# EAGLE library part M24M01 (library EEG)
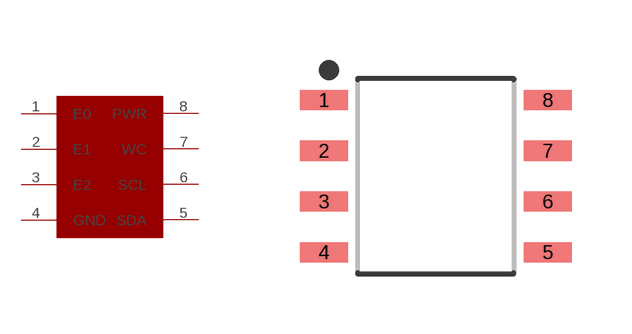
[diagram p3: symbol with the pads of M24M01; footprint M24M01]

Designator prefix -

## M24M01  [M24M01]
1  E0
2  E1
3  E2
4  GND
5  SDA
6  SCL
7  WC
8  PWR

## Footprint M24M01 (pad centres in mm)
8-SOIC, 1.27 mm pitch, 6.00 mm span, 4.90 X 3.90 X 1.75 mm body 8-pin SOIC package with 1.27 mm pitch, 6.00 mm span with body size 4.90 X 3.90 X 1.75 mm
smd 1.212 x 0.502: 1 -2.8,1.905; 2 -2.8,0.635; 3 -2.8,-0.635; 4 -2.8,-1.905; 5 2.8,-1.905; 6 2.8,-0.635; 7 2.8,0.635; 8 2.8,1.905